# Altium footprint library FlatBoards.PcbLib: 19 footprints (part 2 of 2)
Each footprint in its own frame and in the unit in brackets; x right, y up, seen from the top. Pads: shape width x height; smd on the part's side, far side on the other; paste and mask are expansions set on the pad; w line width, h text height; cw(c..) or ccw(c..) is an arc to the next point about the centre after c.
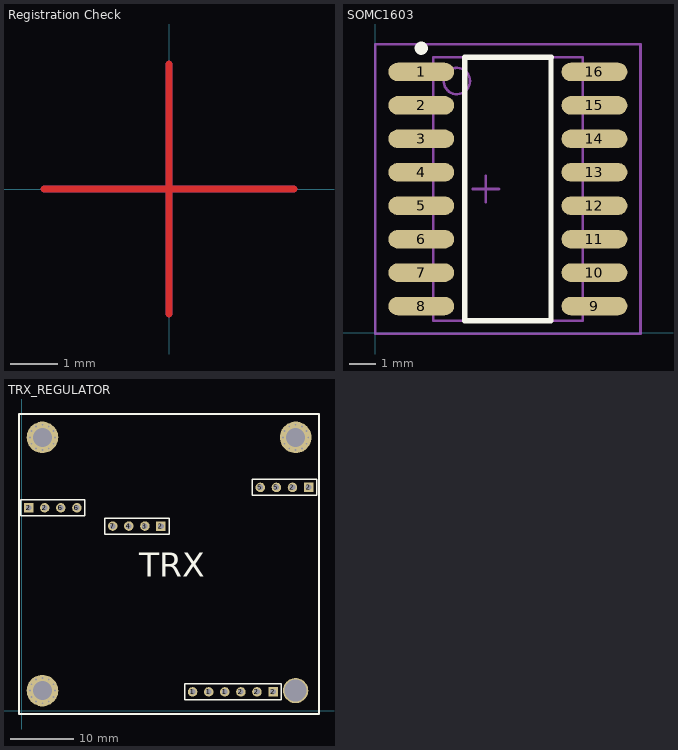
[diagram p1: the footprints below, top view; thin cyan lines are the x and y axes]

## Registration Check [mm]
Top Layer:
  lines w0.152: -2.667,0 0,0 ; 0,-2.667 0,0 ; 0,2.667 0,0 ; 2.667,0 0,0
Bottom Layer:
  lines w0.152: -2.667,0 0,0 ; 0,-2.667 0,0 ; 0,2.667 0,0 ; 2.667,0 0,0
Top Solder:
  rectangle: -3.2,-3.2 3.2,3.2
Bottom Solder:
  rectangle: -3.2,-3.2 3.2,3.2
InternalPlane1:
  pour cut-out: 0,2.743 0,3.2 -3.2,3.2 -3.2,-3.2 3.2,-3.2 3.2,3.2 0,3.2 0,2.743 -0.076,2.667 -0.076,0.076 -2.667,0.076 -2.743,0 -2.692,-0.051 -2.692,-0.076 -0.076,-0.076 -0.076,-2.667 0,-2.743 0.076,-2.667 0.076,-0.076 2.667,-0.076 2.743,0 2.667,0.076 0.076,0.076 0.076,2.667
InternalPlane2:
  pour cut-out: 0,2.743 0,3.2 -3.2,3.2 -3.2,-3.2 3.2,-3.2 3.2,3.2 0,3.2 0,2.743 -0.076,2.667 -0.076,0.076 -2.667,0.076 -2.743,0 -2.692,-0.051 -2.692,-0.076 -0.076,-0.076 -0.076,-2.667 0,-2.743 0.076,-2.667 0.076,-0.076 2.667,-0.076 2.743,0 2.667,0.076 0.076,0.076 0.076,2.667

## SOMC1603 [mm]
pads (16):
  oval 2.5x0.7 smd: 1(1.741,9.906) 2(1.741,8.636) 3(1.741,7.366) 4(1.741,6.096) 5(1.741,4.826) 6(1.741,3.556) 7(1.741,2.286) 8(1.741,1.016) 9(8.316,1.016) 10(8.316,2.286) 11(8.316,3.556) 12(8.316,4.826) 13(8.316,6.096) 14(8.316,7.366) 15(8.316,8.636) 16(8.316,9.906)
Top Overlay:
  circle w0.25: c1.741,10.806 r0.125
  lines w0.2: 6.65,0.461 3.391,0.461 3.391,10.461 6.675,10.461 ; 6.666,0.461 6.666,10.461
Mechanical 13:
  circle w0.1: c3.091,9.561 r0.5
  lines w0.1: 7.85,10.461 2.191,10.461 2.191,0.461 7.861,0.461 7.866,0.466 7.866,10.461
Mechanical 15:
  lines w0.1: 3.691,5.461 4.691,5.461 ; 4.191,4.961 4.191,5.961 ; 10.066,-0.039 10.066,10.961 ; 10.075,-0.039 -0.009,-0.039 -0.009,10.961 10.075,10.961
3D body: height 1.75, standoff 0, extent 2.191,0.45 7.875,10.461

## TRX_REGULATOR [mm]
pads (58):
  round 1.5 hole 0.9: 1(27.018,2.962) 1(29.558,2.962) 1(32.098,2.962) 2(3.65,32.045) 2(34.638,2.962) 2(37.178,2.962) 2(42.791,35.27) 3(19.474,29.149) 4(16.934,29.149) 5(37.711,35.27) 5(40.251,35.27) 6(6.19,32.045) 6(8.73,32.045) 7(14.394,29.149)
  rect 1.5x1.5 hole 0.9: 2(1.11,32.045) 2(22.014,29.149) 2(39.718,2.962) 2(45.331,35.27)
  round 1 hole 0.3: ""(1.291,3.161) ""(1.291,43.161) ""(1.559,2.161) ""(1.559,4.161) ""(1.559,42.161) ""(1.559,44.161) ""(2.291,1.429) ""(2.291,4.893) ""(2.291,41.429) ""(2.291,44.893) ""(3.291,1.161) ""(3.291,5.161) ""(3.291,41.161) ""(3.291,45.161) ""(4.291,1.429) ""(4.291,4.893) ""(4.291,41.429) ""(4.291,44.893) ""(5.023,2.161) ""(5.023,4.161) ""(5.023,42.161) ""(5.023,44.161) ""(5.291,3.161) ""(5.291,43.161) ""(41.291,43.161) ""(41.559,42.161) ""(41.559,44.161) ""(42.291,41.429) ""(42.291,44.893) ""(43.291,41.161) ""(43.291,45.161) ""(44.291,41.429) ""(44.291,44.893) ""(45.023,42.161) ""(45.023,44.161) ""(45.291,43.161)
  round 5 hole 3: ""(3.291,3.161) ""(3.291,43.161) ""(43.291,43.161)
  round 4 hole 3.5: ""(43.291,3.161)
Top Overlay:
  lines w0.2: -0.16,30.775 -0.16,33.315 10,33.315 10,30.775 -0.16,30.775 ; 13.124,27.879 23.284,27.879 23.284,30.419 13.124,30.419 13.124,27.879 ; 25.748,1.692 25.748,4.232 40.988,4.232 40.988,1.692 25.748,1.692 ; 36.441,34 46.601,34 46.601,36.54 36.441,36.54 36.441,34
  lines w0.254: -0.409,-0.539 46.977,-0.539 46.977,46.861 -0.409,46.861 -0.409,-0.539
  text "TRX" at 18.606,21.11 h3.81
Bottom Overlay:
  lines w0.254: 46.952,46.84 46.977,46.815 ; -0.404,-0.5 -0.404,46.85 46.942,46.85 46.971,46.822 46.971,-0.5 46.946,-0.525 -0.379,-0.525 -0.404,-0.5
  text "TRX" at 28.696,21 h3.81